# Altium schematic symbol library Transistors.SchLib: 5 symbols
Pins are listed as number, name and electrical type; pins without a type are passive.

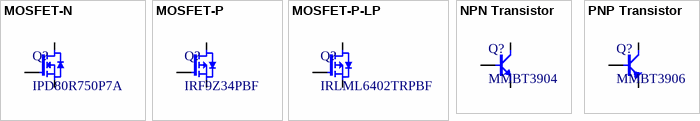
[diagram p0: symbols MOSFET-N to PNP Transistor]

## MOSFET-N
designator Q?, comment IPD80R750P7A
Canal N Montaje en superficie 800V 7 A (Tc) 51 W (Tc) PG-TO252-3; Part number: *; Manufacturer: *; Unit price: *; Value: IPD80R750P7A
footprint TO-252-2 (TO252-2, TO-252-2, DPak (2 Leads + Tab),  SC-63)
footprint TO-220 (TO220, TO-220)
footprint TO-247 (TO247, TO-247)
footprint TO-220AB-H (TO220AB-H,TO-220AB-H)
pins: 1 G, 2 D, 3 S

## MOSFET-P
designator Q?, comment IRF9Z34PBF
MOSFET 60V P-CH HEXFET; Part number: *; Manufacturer: *; Unit price: *; Value: IRF9Z34PBF
footprint TO-220AB-H (TO220AB-H,TO-220AB-H)
pins: 1 G, 2 D, 3 S

## MOSFET-P-LP
designator Q?, comment IRLML6402TRPBF
P-Channel 20V 3.7A (Ta) 1.3W (Ta) /SOT-23 - LowPower; Part number: *; Manufacturer: *; Unit price: *; Value: IRLML6402TRPBF
footprint SOT23-3 (SOT23-3 Package)
pins: 1 G, 2 S, 3 D

## NPN Transistor
designator Q?, comment MMBT3904
NPN Transistor; Part number: *; Manufacturer: *; Unit price: *; Value: MMBT3904
footprint SOT23-3 (SOT23-3 Package)
footprint TO-220-SMD (TO220-SMD, TO-220-SMD)
footprint TO-92-3 (TO92-3, TO-92-3)
footprint SOT223 (SOT223 Package (SC-73))
footprint SOT89-3N (SOT89, 3-Leads, Body 4.50x2.45mm, Pitch 1.50mm, Lead Span 4.1mm, IPC Medium Density)
pins: 1 B, 2 E, 3 C

## PNP Transistor
designator Q?, comment MMBT3906
PNP Transistor; Manufacturer: *; Part number: *; Value: MMBT3906; Unit price: *
footprint SOT23-3 (SOT23-3 Package)
footprint TO-92-3 (TO92-3, TO-92-3)
pins: 1 B, 2 E, 3 C